# Altium footprint library OBC Development Board.PcbLib: 19 footprints (part 1 of 2)
Each footprint in its own frame and in the unit in brackets; x right, y up, seen from the top. Pads: shape width x height; smd on the part's side, far side on the other; paste and mask are expansions set on the pad; w line width, h text height; cw(c..) or ccw(c..) is an arc to the next point about the centre after c.
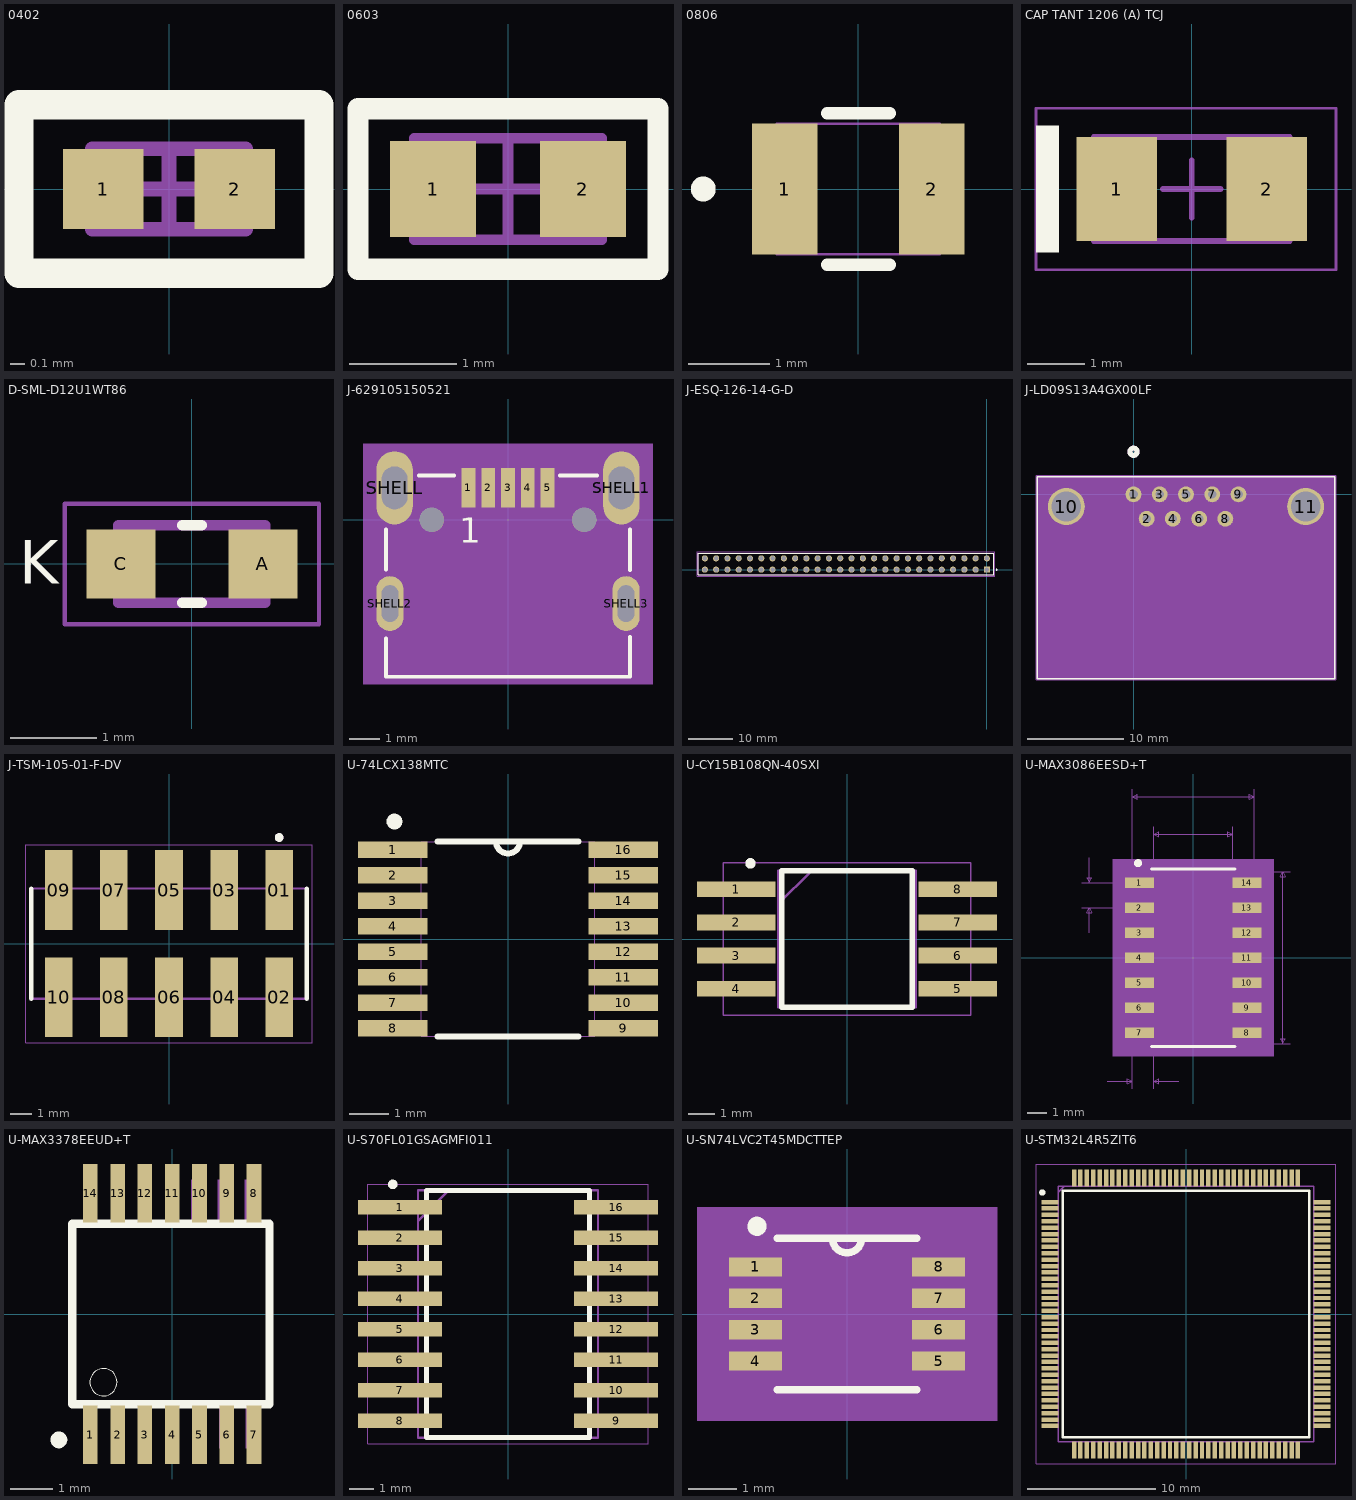
[diagram p0: the footprints below, top view; thin cyan lines are the x and y axes]

## 0402 [mm] "Chip Resistor, 2-Leads, Body 1,00x0,50mm, IPC Medium Density"
height 0.4
pads (2):
  rect 0.55x0.55 smd: 1(-0.45,0) 2(0.45,0)
Top Overlay:
  lines w0.2: -1.025,-0.575 1.025,-0.575 1.025,0.575 -1.025,0.575 -1.025,-0.575
Mechanical 13:
  lines w0.1: -0.525,-0.275 -0.525,0.275 0.525,0.275 0.525,-0.275 -0.525,-0.275
  text ".Designator" at 0,0 h1
Mechanical 15:
  lines w0.05: -1.025,-0.575 -1.025,0.575 1.025,0.575 1.025,-0.575 -1.025,-0.575
  lines w0.1: -0.275,0 0.275,0 ; 0,-0.275 0,0.275
3D body: height 0.4, standoff 0, extent -0.275,-0.275 0.275,0.275
3D body: height 0.4, standoff 0, extent -0.525,-0.275 -0.275,0.275
3D body: height 0.4, standoff 0, extent 0.275,-0.275 0.525,0.275

## 0603 [mm]
pads (2):
  rect 0.8x0.9 smd: 1(-0.7,0) 2(0.7,0)
Top Overlay:
  lines w0.2: -1.4,-0.75 1.4,-0.75 1.4,0.75 -1.4,0.75 -1.4,-0.75
Mechanical 13:
  lines w0.1: -0.875,-0.475 0.875,-0.475 0.875,0.475 -0.875,0.475 -0.875,-0.475
  text ".Designator" at 0,0 h1
Mechanical 15:
  lines w0.1: -0.475,0 0.475,0 ; 0,-0.475 0,0.475 ; -1.4,-0.75 -1.4,0.75 1.4,0.75 1.4,-0.75 -1.4,-0.75
3D body: height 1.3, standoff 0, extent -0.875,-0.475 0.875,0.475

## 0806 [mm]
pads (2):
  rect 0.8x1.6 smd paste+0 mask+0: 1(-0.9,0) 2(0.9,0)
Top Overlay:
  circle w0.152: c-1.9,0 r0.076
  lines w0.152: -0.383,-0.927 0.383,-0.927 ; -0.383,0.927 0.383,0.927
Mechanical 13:
  circle w0: c-1.002,0 r0.076
  lines w0.025: -1,-0.8 -1,0.8 ; -1,-0.8 1,-0.8 ; -1,-0.8 -0.7,-0.8 -0.7,0.8 -1,0.8 ; -1,-0.8 -1,0.8 ; -1,0.8 1,0.8 ; 1,-0.8 1,0.8 ; 1,-0.8 1,0.8 ; 1,-0.8 0.7,-0.8 0.7,0.8 1,0.8
3D body "IND_2016_TDK.step": height 0.85, standoff 0, extent -1,-0.8 1,0.8

## CAP TANT 1206 (A) TCJ [mm] "Cap Tant 2-Leads, EIA 1206, Metric 3216, Body 3.2x1.6mm"
height 1.8
pads (2):
  rect 1.4x1.8 smd: 1(-1.3,0) 2(1.3,0)
Top Overlay:
  rectangle: -2.7,-1.1 -2.3,1.1
Mechanical 13:
  lines w0.1: -1.7,-0.9 -1.7,0.9 1.7,0.9 1.7,-0.9 -1.7,-0.9
  text ".Designator" at 0,0 h1
Mechanical 15:
  lines w0.05: -2.7,-1.4 -2.7,1.4 2.5,1.4 2.5,-1.4 -2.7,-1.4
  lines w0.1: -0.5,0 0.5,0 ; 0,-0.5 0,0.5
3D body "TCJA106M016R0200E-TCJ_A-AVX-TAN.stp": height 1.72, standoff 0.01, extent -1.7,-0.84 1.7,0.84

## D-SML-D12U1WT86 [mm]
pads (2):
  rect 0.8x0.8 smd: A(0.825,0) C(-0.825,0)
Top Overlay:
  lines w0.127: -0.11,-0.45 0.11,-0.45 ; -0.11,0.45 0.11,0.45
  text "K" at -2.007,-0.229 h0.51
Mechanical 13:
  lines w0.127: -0.85,-0.45 -0.85,0.45 0.85,0.45 0.85,-0.45 -0.85,-0.45
Mechanical 15:
  lines w0.05: -1.475,-0.7 -1.475,0.7 1.475,0.7 1.475,-0.7 -1.475,-0.7
3D body "SML-D12U1WT86.STEP": height 0.55, standoff 0, extent -0.8,-0.4 0.8,0.4

## J-629105150521 [mm]
pads (11):
  rect 0.45x1.3 smd: 1(-1.3,1.05) 2(-0.65,1.05) 3(0,1.05) 4(0.65,1.05) 5(1.3,1.05)
  oval 1.2x2.4 hole 0.85 slot 1.4 at 90 deg: SHELL(-3.725,1.05) SHELL1(3.725,1.05)
  oval 0.9x1.8 hole 0.55 slot 1.2 at 90 deg: SHELL2(-3.875,-2.75) SHELL3(3.875,-2.75)
  round 0.8 hole 0.8 unplated: ""(-2.5,0) ""(2.5,0)
Top Overlay:
  lines w0.127: -4,-3.9 -4,-5.15 4,-5.15 4,-3.85 ; -4,-1.64 -4,-0.31 ; -2.92,1.45 -1.77,1.45 ; 1.71,1.45 2.93,1.45 ; 4,-1.65 4,-0.32
  text "1" at -1.6,-0.75 h0.81
Mechanical 1:
  lines w0.127: -4.03,-3.35 -3.72,-3.35 ; -4.03,-2.15 -3.72,-2.15 ; -4,0.35 -3.45,0.35 ; -4,1.75 -3.45,1.75 ; 3.45,0.35 4,0.35 ; 3.45,1.75 4,1.75 ; 3.72,-3.35 4.03,-3.35 ; 3.72,-2.15 4.03,-2.15
Mechanical 13:
  lines w0.127: -4,-5.15 -4,1.45 4,1.45 4,-5.15
  text "1" at -1.6,-0.75 h0.81
  text "PCB edge" at -0.9,-4.68 h0.41
Mechanical 15:
  region: 4.75,-5.4 -4.75,-5.4 -4.75,2.5 4.75,2.5
3D body "629105150521.stp": height 2.88, standoff -1.58, extent -4,-5.15 4,1.453

## J-ESQ-126-14-G-D [mm]
pads (52):
  rect 1.37x1.37 hole 1.02: 01(0,0)
  round 1.37 hole 1.02: 02(0,2.54) 03(-2.54,0) 04(-2.54,2.54) 05(-5.08,0) 06(-5.08,2.54) 07(-7.62,0) 08(-7.62,2.54) 09(-10.16,0) 10(-10.16,2.54) 11(-12.7,0) 12(-12.7,2.54) 13(-15.24,0) 14(-15.24,2.54) 15(-17.78,0) 16(-17.78,2.54) 17(-20.32,0) 18(-20.32,2.54) 19(-22.86,0) 20(-22.86,2.54) 21(-25.4,0) 22(-25.4,2.54) 23(-27.94,0) 24(-27.94,2.54) 25(-30.48,0) 26(-30.48,2.54) 27(-33.02,0) 28(-33.02,2.54) 29(-35.56,0) 30(-35.56,2.54) 31(-38.1,0) 32(-38.1,2.54) 33(-40.64,0) 34(-40.64,2.54) 35(-43.18,0) 36(-43.18,2.54) 37(-45.72,0) 38(-45.72,2.54) 39(-48.26,0) 40(-48.26,2.54) 41(-50.8,0) 42(-50.8,2.54) 43(-53.34,0) 44(-53.34,2.54) 45(-55.88,0) 46(-55.88,2.54) 47(-58.42,0) 48(-58.42,2.54) 49(-60.96,0) 50(-60.96,2.54) 51(-63.5,0) 52(-63.5,2.54)
Top Overlay:
  circle w0.2: c2.175,0 r0.1
  lines w0.2: -65.025,-1.205 1.525,-1.205 1.525,3.745 -65.025,3.745 -65.025,-1.205
Mechanical 13:
  circle w0.2: c2.175,0 r0.1
  lines w0.1: -65.025,-1.205 -65.025,3.745 ; -65.025,-1.205 1.525,-1.205 ; -65.025,-1.205 -65.025,3.745 ; -65.025,3.745 1.525,3.745 ; -65.025,3.745 1.525,3.745 ; 1.525,-1.205 1.525,3.745 ; 1.525,-1.205 1.525,3.745
Mechanical 15:
  lines w0.05: -65.275,-1.455 1.775,-1.455 1.775,3.995 -65.275,3.995 -65.275,-1.455
3D body "ESQ-126-14-G-D.stp": height 11.1, standoff -12.14, extent -65.024,-1.27 1.524,3.81

## J-LD09S13A4GX00LF [mil]
pads (11):
  round 65 hole 35.43 mask+0: 1(0,0) 2(53.94,-100) 3(107.87,0) 4(161.81,-100) 5(215.75,0) 6(269.69,-100) 7(323.62,0) 8(377.56,-100) 9(431.5,0)
  round 152 hole 122.05: 10(-276.18,-50) 11(707.68,-50)
Top Overlay:
  circle w20: c0,175 r15
  lines w6: -395.75,-757.37 827.24,-757.37 827.24,72.32 -395.75,72.32 -395.75,-757.37
Bottom Overlay:
  circle w20: c0,175 r15
Mechanical 13:
  circle w20: c0,175 r15
  lines w1: -390.75,-752.37 822.24,-752.37 822.24,67.32 -390.75,67.32 -390.75,-752.37
Mechanical 15:
  region: 832.24,77.32 -400.75,77.32 -400.75,-762.37 832.24,-762.37
  lines w6: -400.75,-762.37 -400.75,77.32 832.24,77.32 832.24,-762.37 -400.75,-762.37
3D body: height 10, standoff 0, extent 0,0 10,10
3D body "sld09s13a4gx00lf.stp": height 494.09, standoff -159.45, extent -391.54,-748.46 825,68.46

## J-TSM-105-01-F-DV [mm]
pads (10):
  rect 1.27x3.68 smd: 01(5.08,2.475) 02(5.08,-2.475) 03(2.54,2.475) 04(2.54,-2.475) 05(0,2.475) 06(0,-2.475) 07(-2.54,2.475) 08(-2.54,-2.475) 09(-5.08,2.475) 10(-5.08,-2.475)
Top Overlay:
  circle w0.2: c5.08,4.9 r0.1
  lines w0.2: -6.35,-2.54 -6.35,2.54 ; 6.35,-2.54 6.35,2.54
Mechanical 13:
  circle w0.2: c5.08,4.9 r0.1
  lines w0.1: -6.35,-2.54 6.35,-2.54 6.35,2.54 -6.35,2.54 -6.35,-2.54
Mechanical 15:
  lines w0.05: -6.6,-4.565 6.6,-4.565 6.6,4.565 -6.6,4.565 -6.6,-4.565
3D body "step_temp.STEP": height 9.91, standoff 0, extent -6.35,-3.848 6.35,3.848

## U-74LCX138MTC [mm]
pads (16):
  rect 1.78x0.42 smd: 1(-2.94,2.275) 2(-2.94,1.625) 3(-2.94,0.975) 4(-2.94,0.325) 5(-2.94,-0.325) 6(-2.94,-0.975) 7(-2.94,-1.625) 8(-2.94,-2.275) 9(2.94,-2.275) 10(2.94,-1.625) 11(2.94,-0.975) 12(2.94,-0.325) 13(2.94,0.325) 14(2.94,0.975) 15(2.94,1.625) 16(2.94,2.275)
Top Overlay:
  circle w0.2: c-2.9,3 r0.1
  lines w0.152: -1.803,-2.489 1.803,-2.489 ; -1.803,2.489 -0.305,2.489 ; 1.803,2.489 0.305,2.489 ; -0.305,2.489 ccw(c0,2.489) 0.305,2.489 ; -0.305,2.489 0.305,2.489
Mechanical 13:
  lines w0: -0.305,2.489 ccw(c0,2.489) 0.305,2.489 ; -0.305,2.489 0.305,2.489 ; -0.305,2.489 -2.21,2.489 -2.21,-2.489 2.21,-2.489 2.21,2.489 0.305,2.489 ; -3.2,-2.413 -3.2,-2.134 -2.21,-2.134 -2.21,-2.413 -3.2,-2.413 ; -3.2,-1.778 -3.2,-1.473 -2.21,-1.473 -2.21,-1.778 -3.2,-1.778 ; -3.2,-1.118 -3.2,-0.813 -2.21,-0.813 -2.21,-1.118 -3.2,-1.118 ; -3.2,-0.483 -3.2,-0.178 -2.21,-0.178 -2.21,-0.483 -3.2,-0.483 ; -3.2,0.178 -3.2,0.483 -2.21,0.483 -2.21,0.178 -3.2,0.178 ; -3.2,0.813 -3.2,1.118 -2.21,1.118 -2.21,0.813 -3.2,0.813 ; -3.2,1.473 -3.2,1.778 -2.21,1.778 -2.21,1.473 -3.2,1.473 ; -3.2,2.134 -3.2,2.413 -2.21,2.413 -2.21,2.134 -3.2,2.134 ; 2.21,-2.413 2.21,-2.134 3.2,-2.134 3.2,-2.413 2.21,-2.413 ; 2.21,-1.778 2.21,-1.473 3.2,-1.473 3.2,-1.778 2.21,-1.778 ; 2.21,-1.118 2.21,-0.813 3.2,-0.813 3.2,-1.118 2.21,-1.118 ; 2.21,-0.483 2.21,-0.178 3.2,-0.178 3.2,-0.483 2.21,-0.483 ; 2.21,0.178 2.21,0.483 3.2,0.483 3.2,0.178 2.21,0.178 ; 2.21,0.813 2.21,1.118 3.2,1.118 3.2,0.813 2.21,0.813 ; 2.21,1.473 2.21,1.778 3.2,1.778 3.2,1.473 2.21,1.473 ; 2.21,2.134 2.21,2.413 3.2,2.413 3.2,2.134 2.21,2.134
3D body "TSSOP16_5X4P5_ONS.step": height 0.89, standoff 0, extent -3.2,-2.502 3.2,2.502

## U-CY15B108QN-40SXI [mm]
pads (8):
  rect 3x0.6 smd: 1(-4.25,1.905) 2(-4.25,0.635) 3(-4.25,-0.635) 4(-4.25,-1.905) 5(4.25,-1.905) 6(4.25,-0.635) 7(4.25,0.635) 8(4.25,1.905)
Top Overlay:
  circle w0.2: c-3.7,2.9 r0.1
  lines w0.2: -2.5,-2.615 -2.5,2.615 2.5,2.615 2.5,-2.615 -2.5,-2.615
Mechanical 13:
  lines w0.1: -2.64,1.345 -1.37,2.615 ; -2.64,-2.615 -2.64,2.615 2.64,2.615 2.64,-2.615 -2.64,-2.615
Mechanical 15:
  lines w0.05: -4.75,-2.915 -4.75,2.915 4.75,2.915 4.75,-2.915 -4.75,-2.915
3D body "CY15B108QN-40SXI.stp": height 2.03, standoff 0, extent -4.002,-2.615 4.002,2.615

## U-MAX3086EESD+T [mil]
pads (14):
  rect 57.5x21 smd paste+0 mask+0: 1(-107.25,150) 2(-107.25,100) 3(-107.25,50) 4(-107.25,0) 5(-107.25,-50) 6(-107.25,-100) 7(-107.25,-150) 8(107.25,-150) 9(107.25,-100) 10(107.25,-50) 11(107.25,0) 12(107.25,50) 13(107.25,100) 14(107.25,150)
Top Overlay:
  circle w7.87: c-110.24,188.98 r3.94
  lines w6: -83.5,-177 83.5,-177 ; -83.5,177 83.5,177
Mechanical 5:
  region: 161,-197 -161,-197 -161,197 161,197
Mechanical 7:
  lines w1: -222.25,100 -107.25,100 ; -222.25,150 -107.25,150 ; -207.25,50 -207.25,100 ; -207.25,200 -207.25,150 ; -172,-247 -122,-247 ; -122,-262 -122,0 -122,337 ; -78.5,-262 -78.5,0 -78.5,262 ; -28.5,-247 -78.5,-247 ; 0,-172 193.5,-172 ; 0,172 193.5,172 ; 78.5,0 78.5,262 ; 122,0 122,337 ; -207.25,100 -212.25,90 -202.25,90 -207.25,100 ; -207.25,150 -212.25,160 -202.25,160 -207.25,150 ; -122,-247 -132,-242 -132,-252 -122,-247 ; -122,322 122,322 ; -122,322 -112,327 -112,317 -122,322 ; -78.5,-247 -68.5,-242 -68.5,-252 -78.5,-247 ; -78.5,247 78.5,247 ; -78.5,247 -68.5,252 -68.5,242 -78.5,247 ; 78.5,247 68.5,252 68.5,242 78.5,247 ; 122,322 112,327 112,317 122,322 ; 178.5,-172 178.5,172 ; 178.5,-172 173.5,-162 183.5,-162 178.5,-172 ; 178.5,172 173.5,162 183.5,162 178.5,172
  text "Default Padstyle: RX57p5Y21D0T" at -375,-372 h50
  text "Pin One Padstyle: RX57p5Y21D0T" at -375,-432 h50
  text "Alt 1 Padstyle: OX60Y90D30P" at -337.5,-612 h50
  text "Alt 2 Padstyle: OX90Y60D30P" at -337.5,-672 h50
  text "0.157in/3.988mm" at -93.75,267 h25
  text "0.244in/6.198mm" at -93.75,342 h25
  text "0.344in/8.738mm" at 198.5,-12.5 h25
  text "0.05in/1.27mm" at -389.75,112.5 h25
  text "0.05in/1.27mm" at -181.5,-292 h25
Mechanical 13:
  lines w0: -12,172 ccw(c0,172) 12,172
  lines w1: -122,-159.5 -122,-140.5 -78.5,-140.5 -78.5,-159.5 -122,-159.5 ; -122,-109.5 -122,-90.5 -78.5,-90.5 -78.5,-109.5 -122,-109.5 ; -122,-59.5 -122,-40.5 -78.5,-40.5 -78.5,-59.5 -122,-59.5 ; -122,-9.5 -122,9.5 -78.5,9.5 -78.5,-9.5 -122,-9.5 ; -122,40.5 -122,59.5 -78.5,59.5 -78.5,40.5 -122,40.5 ; -122,90.5 -122,109.5 -78.5,109.5 -78.5,90.5 -122,90.5 ; -122,140.5 -122,159.5 -78.5,159.5 -78.5,140.5 -122,140.5 ; -78.5,-172 78.5,-172 78.5,172 -78.5,172 -78.5,-172 ; 78.5,-159.5 78.5,-140.5 122,-140.5 122,-159.5 78.5,-159.5 ; 78.5,-109.5 78.5,-90.5 122,-90.5 122,-109.5 78.5,-109.5 ; 78.5,-59.5 78.5,-40.5 122,-40.5 122,-59.5 78.5,-59.5 ; 78.5,-9.5 78.5,9.5 122,9.5 122,-9.5 78.5,-9.5 ; 78.5,40.5 78.5,59.5 122,59.5 122,40.5 78.5,40.5 ; 78.5,90.5 78.5,109.5 122,109.5 122,90.5 78.5,90.5 ; 78.5,140.5 78.5,159.5 122,159.5 122,140.5 78.5,140.5
  text "*" at -76,119 h50
Mechanical 15:
  region: -88.5,-170.5 -146,-170.5 -146,170.5 -88.5,170.5 -88.5,182 88.5,182 88.5,170.5 146,170.5 146,-170.5 88.5,-170.5 88.5,-182 -88.5,-182
  lines w6: -146,-170.5 -146,170.5 -88.5,170.5 -88.5,182 88.5,182 88.5,170.5 146,170.5 146,-170.5 88.5,-170.5 88.5,-182 -88.5,-182 -88.5,-170.5 -146,-170.5
3D body: height 10, standoff 0, extent 0,0 10,10
3D body "21-0041B_14_MXM.step": height 69.09, standoff 0, extent -122.01,-172.01 122.01,172

## U-MAX3378EEUD+T [mm]
pads (14):
  rect 0.35x1.4 smd: 1(-1.95,-2.875) 2(-1.3,-2.875) 3(-0.65,-2.875) 4(0,-2.875) 5(0.65,-2.875) 6(1.3,-2.875) 7(1.95,-2.875) 8(1.95,2.875) 9(1.3,2.875) 10(0.65,2.875) 11(0,2.875) 12(-0.65,2.875) 13(-1.3,2.875) 14(-1.95,2.875)
Top Overlay:
  circle w0: c-1.635,-1.625 r0.325
  circle w0.2: c-2.7,-3 r0.1
  lines w0.2: -2.385,-2.15 -2.385,2.15 2.32,2.15 2.32,-2.15 -2.385,-2.15
Mechanical 13:
  region: -1.835,-3.2 -2.085,-3.2 -2.085,-2.2 -1.835,-2.2
  region: -1.185,-3.2 -1.435,-3.2 -1.435,-2.2 -1.185,-2.2
  region: -0.535,-3.2 -0.785,-3.2 -0.785,-2.2 -0.535,-2.2
  region: 0.115,-3.2 -0.135,-3.2 -0.135,-2.2 0.115,-2.2
  region: 0.115,2.2 -0.135,2.2 -0.135,3.2 0.115,3.2
  region: -0.535,2.2 -0.785,2.2 -0.785,3.2 -0.535,3.2
  region: -1.185,2.2 -1.435,2.2 -1.435,3.2 -1.185,3.2
  region: -1.835,2.2 -2.085,2.2 -2.085,3.2 -1.835,3.2
  region: 0.735,-3.2 0.485,-3.2 0.485,-2.2 0.735,-2.2
  region: 1.37,-3.2 1.12,-3.2 1.12,-2.2 1.37,-2.2
  region: 2.005,-3.2 1.755,-3.2 1.755,-2.2 2.005,-2.2
  region: 1.34,2.2 1.09,2.2 1.09,3.2 1.34,3.2
  region: 1.975,2.2 1.725,2.2 1.725,3.2 1.975,3.2
  region: 0.705,2.2 0.455,2.2 0.455,3.2 0.705,3.2
3D body "step_temp.STEP": height 1.1, standoff 0, extent -2.5,-3.175 2.5,3.225

## U-S70FL01GSAGMFI011 [mm]
pads (16):
  rect 3.5x0.6 smd: 1(-4.5,4.445) 2(-4.5,3.175) 3(-4.5,1.905) 4(-4.5,0.635) 5(-4.5,-0.635) 6(-4.5,-1.905) 7(-4.5,-3.175) 8(-4.5,-4.445) 9(4.5,-4.445) 10(4.5,-3.175) 11(4.5,-1.905) 12(4.5,-0.635) 13(4.5,0.635) 14(4.5,1.905) 15(4.5,3.175) 16(4.5,4.445)
Top Overlay:
  circle w0.2: c-4.8,5.4 r0.1
  lines w0.2: -3.4,-5.15 -3.4,5.15 3.4,5.15 3.4,-5.15 -3.4,-5.15
Mechanical 13:
  lines w0.1: -3.75,3.88 -2.48,5.15 ; -3.75,-5.15 -3.75,5.15 3.75,5.15 3.75,-5.15 -3.75,-5.15
Mechanical 15:
  lines w0.05: -5.85,-5.4 -5.85,5.4 5.85,5.4 5.85,-5.4 -5.85,-5.4
3D body "S70FL01GSAGMFI011.stp": height 2.65, standoff 0, extent -5.15,-5.15 5.15,5.15

## U-SN74LVC2T45MDCTTEP [mm]
pads (8):
  rect 1.1x0.4 smd: 1(-1.9,0.975) 2(-1.9,0.325) 3(-1.9,-0.325) 4(-1.9,-0.975) 5(1.9,-0.975) 6(1.9,-0.325) 7(1.9,0.325) 8(1.9,0.975)
Top Overlay:
  circle w0.2: c-1.867,1.819 r0.1
  lines w0.152: -1.448,-1.575 1.448,-1.575 ; -1.448,1.575 1.448,1.575 ; -0.305,1.575 ccw(c0,1.575) 0.305,1.575
Mechanical 5:
  region: 3.111,-2.21 -3.111,-2.21 -3.111,2.21 3.111,2.21
Mechanical 13:
  lines w0: -0.305,1.575 ccw(c0,1.575) 0.305,1.575
  lines w0.025: -2.121,-1.127 -2.121,-0.823 -1.448,-0.823 -1.448,-1.127 -2.121,-1.127 ; -2.121,-0.477 -2.121,-0.173 -1.448,-0.173 -1.448,-0.477 -2.121,-0.477 ; -2.121,0.173 -2.121,0.477 -1.448,0.477 -1.448,0.173 -2.121,0.173 ; -2.121,0.823 -2.121,1.127 -1.448,1.127 -1.448,0.823 -2.121,0.823 ; -1.448,-1.575 1.448,-1.575 1.448,1.575 -1.448,1.575 -1.448,-1.575 ; 1.448,-1.127 1.448,-0.823 2.121,-0.823 2.121,-1.127 1.448,-1.127 ; 1.448,-0.477 1.448,-0.173 2.121,-0.173 2.121,-0.477 1.448,-0.477 ; 1.448,0.173 1.448,0.477 2.121,0.477 2.121,0.173 1.448,0.173 ; 1.448,0.823 1.448,1.127 2.121,1.127 2.121,0.823 1.448,0.823
  text "*" at -2.267,1.204 h1.27
Mechanical 15:
  region: 2.73,-1.829 -2.73,-1.829 -2.73,1.829 2.73,1.829
  lines w0.152: -2.73,-1.829 -2.73,1.829 2.73,1.829 2.73,-1.829 -2.73,-1.829
3D body "DCT0008A.stp": height 0.91, standoff 0, extent -2.01,-1.475 2.011,1.475
3D body: height 0.25, standoff 0, extent 0,0 0.254,0.254

## U-STM32L4R5ZIT6 [mm]
pads (144):
  rect 1.35x0.35 smd: 1(-10.625,8.75) 2(-10.625,8.25) 3(-10.625,7.75) 4(-10.625,7.25) 5(-10.625,6.75) 6(-10.625,6.25) 7(-10.625,5.75) 8(-10.625,5.25) 9(-10.625,4.75) 10(-10.625,4.25) 11(-10.625,3.75) 12(-10.625,3.25) 13(-10.625,2.75) 14(-10.625,2.25) 15(-10.625,1.75) 16(-10.625,1.25) 17(-10.625,0.75) 18(-10.625,0.25) 19(-10.625,-0.25) 20(-10.625,-0.75) 21(-10.625,-1.25) 22(-10.625,-1.75) 23(-10.625,-2.25) 24(-10.625,-2.75) 25(-10.625,-3.25) 26(-10.625,-3.75) 27(-10.625,-4.25) 28(-10.625,-4.75) 29(-10.625,-5.25) 30(-10.625,-5.75) 31(-10.625,-6.25) 32(-10.625,-6.75) 33(-10.625,-7.25) 34(-10.625,-7.75) 35(-10.625,-8.25) 36(-10.625,-8.75) 73(10.625,-8.75) 74(10.625,-8.25) 75(10.625,-7.75) 76(10.625,-7.25) 77(10.625,-6.75) 78(10.625,-6.25) 79(10.625,-5.75) 80(10.625,-5.25) 81(10.625,-4.75) 82(10.625,-4.25) 83(10.625,-3.75) 84(10.625,-3.25) 85(10.625,-2.75) 86(10.625,-2.25) 87(10.625,-1.75) 88(10.625,-1.25) 89(10.625,-0.75) 90(10.625,-0.25) 91(10.625,0.25) 92(10.625,0.75) 93(10.625,1.25) 94(10.625,1.75) 95(10.625,2.25) 96(10.625,2.75) 97(10.625,3.25) 98(10.625,3.75) 99(10.625,4.25) 100(10.625,4.75) 101(10.625,5.25) 102(10.625,5.75) 103(10.625,6.25) 104(10.625,6.75) 105(10.625,7.25) 106(10.625,7.75) 107(10.625,8.25) 108(10.625,8.75)
  rect 0.35x1.35 smd: 37(-8.75,-10.625) 38(-8.25,-10.625) 39(-7.75,-10.625) 40(-7.25,-10.625) 41(-6.75,-10.625) 42(-6.25,-10.625) 43(-5.75,-10.625) 44(-5.25,-10.625) 45(-4.75,-10.625) 46(-4.25,-10.625) 47(-3.75,-10.625) 48(-3.25,-10.625) 49(-2.75,-10.625) 50(-2.25,-10.625) 51(-1.75,-10.625) 52(-1.25,-10.625) 53(-0.75,-10.625) 54(-0.25,-10.625) 55(0.25,-10.625) 56(0.75,-10.625) 57(1.25,-10.625) 58(1.75,-10.625) 59(2.25,-10.625) 60(2.75,-10.625) 61(3.25,-10.625) 62(3.75,-10.625) 63(4.25,-10.625) 64(4.75,-10.625) 65(5.25,-10.625) 66(5.75,-10.625) 67(6.25,-10.625) 68(6.75,-10.625) 69(7.25,-10.625) 70(7.75,-10.625) 71(8.25,-10.625) 72(8.75,-10.625) 109(8.75,10.625) 110(8.25,10.625) 111(7.75,10.625) 112(7.25,10.625) 113(6.75,10.625) 114(6.25,10.625) 115(5.75,10.625) 116(5.25,10.625) 117(4.75,10.625) 118(4.25,10.625) 119(3.75,10.625) 120(3.25,10.625) 121(2.75,10.625) 122(2.25,10.625) 123(1.75,10.625) 124(1.25,10.625) 125(0.75,10.625) 126(0.25,10.625) 127(-0.25,10.625) 128(-0.75,10.625) 129(-1.25,10.625) 130(-1.75,10.625) 131(-2.25,10.625) 132(-2.75,10.625) 133(-3.25,10.625) 134(-3.75,10.625) 135(-4.25,10.625) 136(-4.75,10.625) 137(-5.25,10.625) 138(-5.75,10.625) 139(-6.25,10.625) 140(-6.75,10.625) 141(-7.25,10.625) 142(-7.75,10.625) 143(-8.25,10.625) 144(-8.75,10.625)
Top Overlay:
  circle w0.25: c-11.225,9.5 r0.125
  lines w0.2: -9.65,-9.65 -9.65,9.65 9.65,9.65 9.65,-9.65 -9.65,-9.65
Mechanical 13:
  lines w0.1: -10,9.5 -9.5,10 ; -10,-10 -10,10 10,10 10,-10 -10,-10
Mechanical 15:
  lines w0.05: -11.725,-11.725 -11.725,11.725 11.725,11.725 11.725,-11.725 -11.725,-11.725
3D body "STM32L4R5ZIT6.stp": height 1.6, standoff 0, extent -11,-11 11,11